# Altium schematic symbol library GCMSCHLibrerias.SchLib: 40 symbols
Pins are listed as number, name and electrical type; pins without a type are passive.

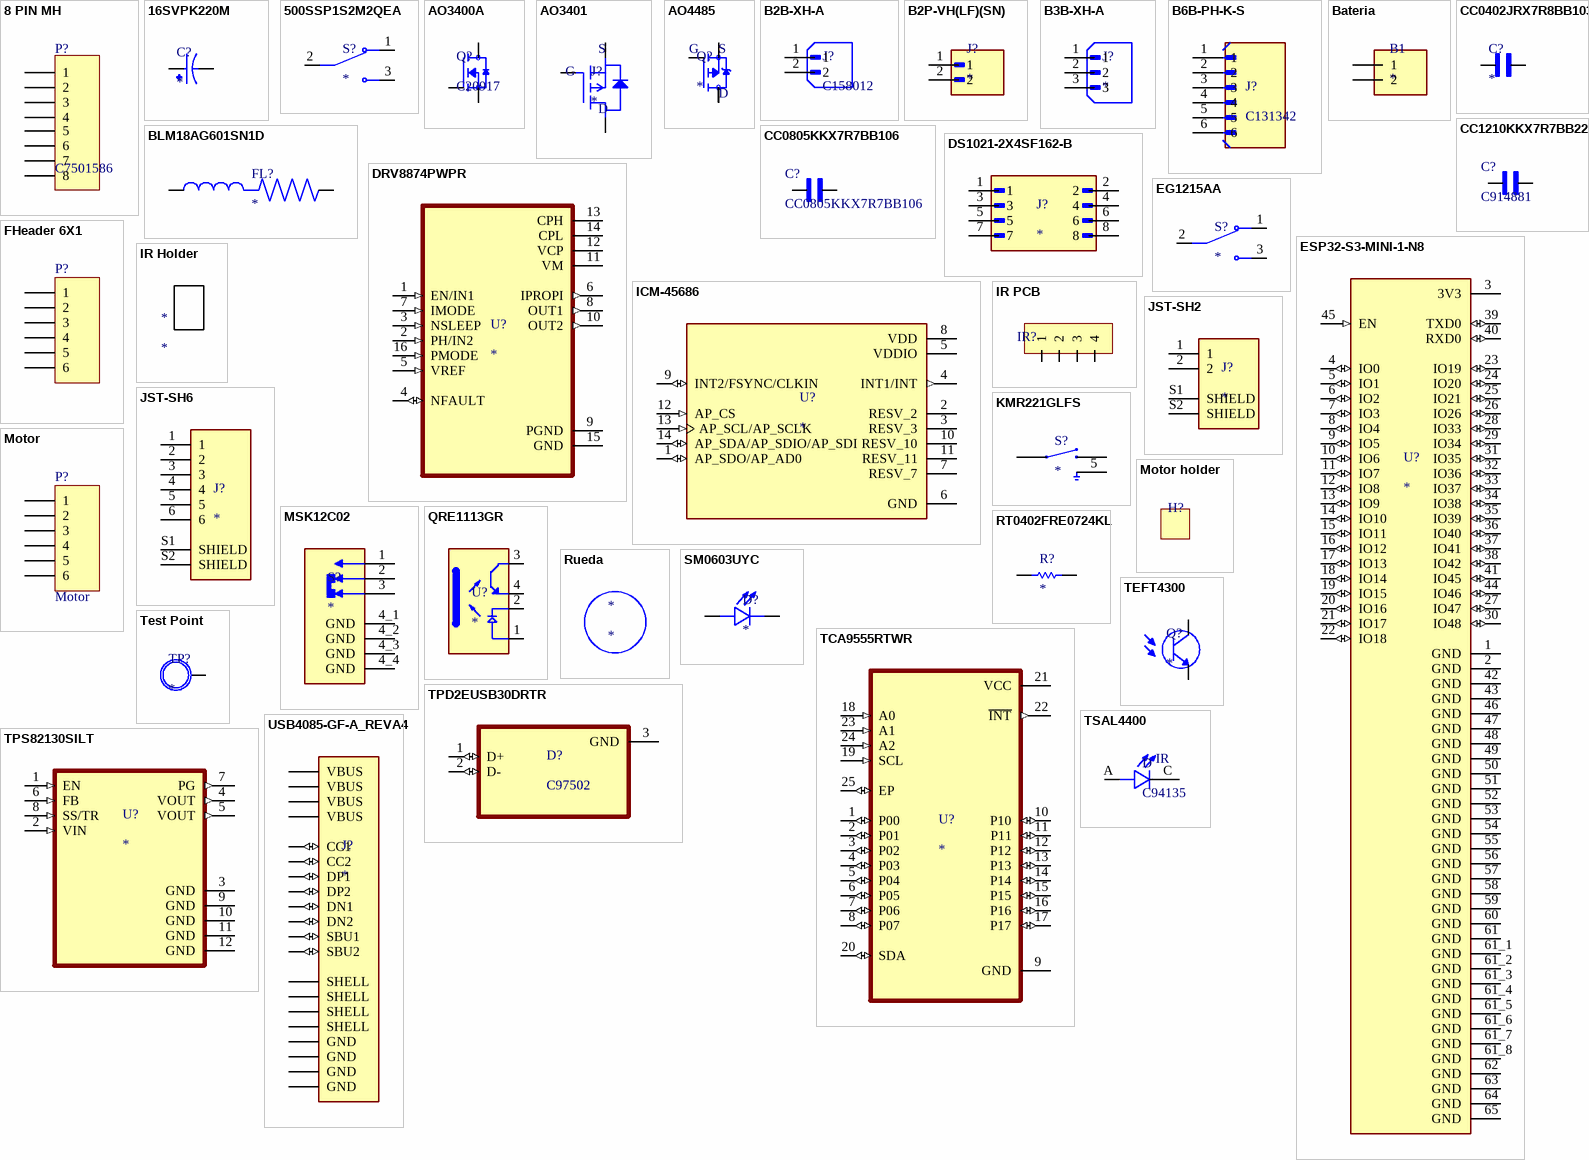
[diagram p0: symbols 8 PIN MH to USB4085-GF-A_REVA4]

## 8 PIN MH
designator P?, comment C7501586
LatestRevisionDate: 17-Jul-2002; LatestRevisionNote: Re-released for DXP Platform.; Publisher: Altium Limited
footprint 8 Pin Male Header
pins: 1, 2, 3, 4, 5, 6, 7, 8

## 16SVPK220M
designator C?
CAP, 220UF, 16V, ALU ELEC, POLYMER, SMD; Capacitance:220ÂµF; Voltage Rating:16V; AE Capacitor Case:Radial Can - SMD; Product Range:OS-CON SVPK Series; ESR:0.022ohm; Lifetime @ Temperature:1000 hours @ 12; MF: Panasonic; MP: 16SVPK220M.; SnapEDA_Link: https://www.snapeda.com/parts/16SVPK220M./Panasonic/view-part/?ref=snap; Package: None; Value: *; Check_prices: https://www.snapeda.com/parts/16SVPK220M./Panasonic/view-part/?ref=eda
footprint CAP_16SVPK220M
pins: 1, 2

## 500SSP1S2M2QEA
designator S?
Slide Switch, 500A Series, Sealed, SPDT, ON-ON, 5A, 120VAC/28VDC, Silver, PC Pi | E-Switch 500SSP1S2M2QEA; SnapEDA_Link: https://www.snapeda.com/parts/500SSP1S2M2QEA/E-Switch/view-part/?ref=snap; Package: None; Value: *; MF: E-Switch; MP: 500SSP1S2M2QEA; Check_prices: https://www.snapeda.com/parts/500SSP1S2M2QEA/E-Switch/view-part/?ref=eda
footprint SW_500SSP1S2M2QEA
pins: 1 NC, 2 COM, 3 NO

## AO3400A
designator Q?, comment C20917
N-Channel 30 V 5.7A (Ta) 1.4W (Ta) Surface Mount SOT-23-3; MF: Alpha & Omega Semiconductor; MP: AO3400A; SnapEDA_Link: https://www.snapeda.com/parts/AO3400A/Alpha/view-part/?ref=snap; Package: SOT-23 Alpha &amp; Omega Semiconductor Inc.; Value: *; Check_prices: https://www.snapeda.com/parts/AO3400A/Alpha/view-part/?ref=eda
footprint SOT95P280X125-3N
pins: 1 G, 2 S, 3 D

## AO3401
designator J?
P-Channel 30 V 4A (Ta) 1.4W (Ta) Surface Mount SOT-23-3; MF: Alpha & Omega Semiconductor; MP: AO3401; SnapEDA_Link: https://www.snapeda.com/parts/AO3401/Alpha/view-part/?ref=snap; Package: SOT-23-3 Alpha &amp; Omega Semiconductor; Value: *; Check_prices: https://www.snapeda.com/parts/AO3401/Alpha/view-part/?ref=eda
footprint SOT23
pins: 1 G, 2 S, 3 D

## AO4485
designator Q?
P-Channel 40 V 10A (Ta) 1.7W (Ta) Surface Mount 8-SOIC; MF: Alpha &; MP: AO4485; SnapEDA_Link: https://www.snapeda.com/parts/AO4485/Alpha/view-part/?ref=snap; Package: SOIC-8 Alpha &amp; Omega Semiconductor; Value: *; Check_prices: https://www.snapeda.com/parts/AO4485/Alpha/view-part/?ref=eda
footprint SOIC127P600X175-8N
pins: 1 S, 2 S, 3 S, 4 G, 5 D, 6 D, 7 D, 8 D

## B2B-XH-A
designator J?, comment C158012
MF: {'manufacturer': u'JST Sales America Inc.'}; MP: B2B-XH-A; Package: None; Price: None; Value: *; Availability: Unavailable
footprint JST_B2B-XH-A
pins: 1, 2

## B2P-VH(LF)(SN)
designator J?
Connector Header Through Hole 2 position 0.156 (3.96mm); MF: JST Sales; MP: B2P-VH(LF)(SN); SnapEDA_Link: https://www.snapeda.com/parts/B2P-VH(LF)(SN)/JST/view-part/?ref=snap; Package: None; Value: *; Check_prices: https://www.snapeda.com/parts/B2P-VH(LF)(SN)/JST/view-part/?ref=eda
footprint JST_B2P-VH(LF)(SN)
pins: 1, 2

## B3B-XH-A
designator J?
Connector Header Through Hole 3 position 0.098 (2.50mm); MF: JST Sales; MP: B3B-XH-A; SnapEDA_Link: https://www.snapeda.com/parts/B3B-XH-A/JST/view-part/?ref=snap; Package: None; Value: *; Check_prices: https://www.snapeda.com/parts/B3B-XH-A/JST/view-part/?ref=eda
footprint JST_B3B-XH-A
pins: 1, 2, 3

## B6B-PH-K-S
designator J?, comment C131342
Connector Header Through Hole 6 position 0.079 (2.00mm); MF: JST Sales; MP: B6B-PH-K-S; SnapEDA_Link: https://www.snapeda.com/parts/B6B-PH-K-S/JST+Sales+America+Inc./view-part/?ref=snap; Package: None; Value: *; Check_prices: https://www.snapeda.com/parts/B6B-PH-K-S/JST+Sales+America+Inc./view-part/?ref=eda
footprint JST_B6B-PH-K-S
pins: 1, 2, 3, 4, 5, 6

## Bateria
designator B1
MF: JST Sales; MP: B2P-VH(LF)(SN); SnapEDA_Link: https://www.snapeda.com/parts/B2P-VH(LF)(SN)/JST/view-part/?ref=snap; Package: None; Value: *; Check_prices: https://www.snapeda.com/parts/B2P-VH(LF)(SN)/JST/view-part/?ref=eda
footprint Bateria
pins: 1, 2

## BLM18AG601SN1D
designator FL?
600 Ohms @ 100 MHz 1 - Ferrite Bead 0603 (1608 Metric) 500mA 380mOhm; MF: Murata; MP: BLM18AG601SN1D; Check_prices: https://www.snapeda.com/parts/BLM18AG601SN1D/Murata/view-part/?ref=eda; SnapEDA_Link: https://www.snapeda.com/parts/BLM18AG601SN1D/Murata/view-part/?ref=snap; Availability: In Stock; Value: *; Price: None; Package: 1608 Murata; Purchase-URL: https://pricing.snapeda.com/search/part/BLM18AG601SN1D/?ref=eda
footprint BEADC1608X95N
pins: 1, 2

## CC0402JRX7R8BB103
designator C?
10000 pF Â±5% 25V Ceramic Capacitor X7R 0402 (1005 Metric); MF: Yageo; MP: CC0402JRX7R8BB103; SnapEDA_Link: https://www.snapeda.com/parts/CC0402JRX7R8BB103/Yageo/view-part/?ref=snap; Package: 0402 Yageo; Value: *; Check_prices: https://www.snapeda.com/parts/CC0402JRX7R8BB103/Yageo/view-part/?ref=eda
footprint CAPC1005X55N
pins: 1, 2

## CC0805KKX7R7BB106
designator C?
Description; Manufacturer_Name: Yageo; Copyright: Copyright (C) 2026 Ultra Librarian. All rights reserved.; Manufacturer_Part_Number: CC0805KKX7R7BB106
footprint CAP_CC0805_YAG
pins: 1, 2

## CC1210KKX7R7BB226
designator C?, comment C914881
Description; Manufacturer_Name: Yageo; Manufacturer_Part_Number: CC1210KKX7R7BB226; Copyright: Copyright (C) 2026 Ultra Librarian. All rights reserved.
footprint CAP_CC1210_YAG
pins: 1, 2

## DRV8874PWPR
designator U?
40-V, 6-A H-bridge motor driver with integrated current sensing feedback; MF: Texas Instruments; MP: DRV8874PWPR; SnapEDA_Link: https://www.snapeda.com/parts/DRV8874PWPR/Texas+Instruments/view-part/?ref=snap; Package: HTSSOP-16 Texas Instruments; Value: *; Check_prices: https://www.snapeda.com/parts/DRV8874PWPR/Texas+Instruments/view-part/?ref=eda
footprint SOP65P640X120-17N
pins: 1 EN/IN1 (in), 2 PH/IN2 (in), 3 NSLEEP (in), 4 NFAULT (io), 5 VREF (in), 6 IPROPI (out), 7 IMODE (in), 8 OUT1 (out), 9 PGND (power), 10 OUT2 (out), 11 VM (power), 12 VCP (power), 13 CPH (power), 14 CPL (power), 15 GND (power), 16 PMODE (in)

## DS1021-2X4SF162-B
designator J?
Pin header; pin strips; male; PIN: 8; straight; 2.54mm; THT; 2x4; MF: Connfly; MP: DS1021-2X4SF162-B; SnapEDA_Link: https://www.snapeda.com/parts/DS1021-2X4SF162-B/Connfly/view-part/?ref=snap; Package: None; Value: *; Check_prices: https://www.snapeda.com/parts/DS1021-2X4SF162-B/Connfly/view-part/?ref=eda
footprint CONNFLY_DS1021-2X4SF162-B
pins: 1, 2, 3, 4, 5, 6, 7, 8

## EG1215AA
designator S?
Slide Switch SPDT Surface Mount, Right Angle; MF: E-Switch; MP: EG1215AA; SnapEDA_Link: https://www.snapeda.com/parts/EG1215AA/E-Switch/view-part/?ref=snap; Package: None; Value: *; Check_prices: https://www.snapeda.com/parts/EG1215AA/E-Switch/view-part/?ref=eda
footprint SW_EG1215AA
pins: 1, 2, 3

## ESP32-S3-MINI-1-N8
designator U?
MF: {'manufacturer': u'Espressif Systems'}; MP: ESP32-S3-MINI-1-N8; Package: None; Price: None; Value: *; Availability: Unavailable
footprint XCVR_ESP32-S3-MINI-1-N8
pins: 1 GND (power), 2 GND (power), 3 3V3 (power), 4 IO0 (io), 5 IO1 (io), 6 IO2 (io), 7 IO3 (io), 8 IO4 (io), 9 IO5 (io), 10 IO6 (io), 11 IO7 (io), 12 IO8 (io), 13 IO9 (io), 14 IO10 (io), 15 IO11 (io), 16 IO12 (io), 17 IO13 (io), 18 IO14 (io), 19 IO15 (io), 20 IO16 (io), 21 IO17 (io), 22 IO18 (io), 23 IO19 (io), 24 IO20 (io), 25 IO21 (io), 26 IO26 (io), 27 IO47 (io), 28 IO33 (io), 29 IO34 (io), 30 IO48 (io), 31 IO35 (io), 32 IO36 (io), 33 IO37 (io), 34 IO38 (io), 35 IO39 (io), 36 IO40 (io), 37 IO41 (io), 38 IO42 (io), 39 TXD0 (io), 40 RXD0 (io), 41 IO45 (io), 42 GND (power), 43 GND (power), 44 IO46 (io), 45 EN (in), 46 GND (power), 47 GND (power), 48 GND (power), 49 GND (power), 50 GND (power), 51 GND (power), 52 GND (power), 53 GND (power), 54 GND (power), 55 GND (power), 56 GND (power), 57 GND (power), 58 GND (power), 59 GND (power), 60 GND (power), 61 GND (power), 61_1 GND (power), 61_2 GND (power), 61_3 GND (power), 61_4 GND (power), 61_5 GND (power), 61_6 GND (power), 61_7 GND (power), 61_8 GND (power), 62 GND (power), 63 GND (power), 64 GND (power), 65 GND (power)

## FHeader 6X1
designator P?
LatestRevisionDate: 17-Jul-2002; LatestRevisionNote: Re-released for DXP Platform.; Publisher: Altium Limited
footprint FHDR1X6
pins: 1, 2, 3, 4, 5, 6

## ICM-45686
designator U?
Accelerometer, Gyroscope, 6 Axis Sensor Output; MP: ICM-42688-P; Package: None; Value: *; Availability: Unavailable; Price: None
footprint PQFN50P300X250X97-14N
pins: 1 AP_SDO/AP_AD0 (io), 2 RESV_2, 3 RESV_3, 4 INT1/INT (out), 5 VDDIO (power), 6 GND (power), 7 RESV_7, 8 VDD (power), 9 INT2/FSYNC/CLKIN (io), 10 RESV_10, 11 RESV_11, 12 AP_CS (in), 13 AP_SCL/AP_SCLK (in), 14 AP_SDA/AP_SDIO/AP_SDI (io)

## IR Holder
designator *
footprint IR Holder

## IR PCB
designator IR?  (value not drawn)
footprint IR Board pins
pins: 1, 2, 3, 4

## JST-SH2
designator J?
MP: BM02B-SRSS-TB(LF)(SN); Package: None; Price: None; Value: *; Availability: Unavailable
footprint JST-SH2
pins: 1, 2, S1 SHIELD, S2 SHIELD

## JST-SH6
designator J?
MP: BM06B-SRSS-TB(LF)(SN); Package: None; Price: None; Value: *; Availability: Unavailable
footprint JST-SH6
pins: 1, 2, 3, 4, 5, 6, S1 SHIELD, S2 SHIELD

## KMR221GLFS
designator S?
Switch Tactile N.O. SPST Button Gull Wing 0.05A 32VDC 1VA 200000Cycles 2N SMD Automotive T/R; MF: CK; MP: KMR221G LFS; SnapEDA_Link: https://www.snapeda.com/parts/KMR221G%20LFS/C%2526K/view-part/?ref=snap; Package: None; Value: *; Check_prices: https://www.snapeda.com/parts/KMR221G%20LFS/C%2526K/view-part/?ref=eda
footprint SW_KMR221GLFS
pins: 1, 2 3, 3, 4 1, 5

## Motor
designator P?
LatestRevisionDate: 17-Jul-2002; LatestRevisionNote: Re-released for DXP Platform.; Publisher: Altium Limited
footprint MotionSupport
pins: 1, 2, 3, 4, 5, 6

## Motor holder
designator H?
footprint motor holder

## MSK12C02
designator S?
MP: MSK12C02; Package: None; Price: None; Value: *; Availability: Unavailable
footprint SW_MSK12C02
pins: 1, 2, 3, 4_1 GND, 4_2 GND, 4_3 GND, 4_4 GND

## QRE1113GR
designator U?
Reflective Optical Sensor 0.039 (1mm) 4-SMD, Gull Wing; MF: ON Semiconductor; MP: QRE1113GR; Package: ARUSM-313-4 ON Semiconductor; Price: None; Check_prices: https://www.snapeda.com/parts/QRE1113GR/Onsemi/view-part/?ref=eda; Value: *; SnapEDA_Link: https://www.snapeda.com/parts/QRE1113GR/Onsemi/view-part/?ref=snap; Availability: In Stock; Purchase-URL: https://pricing.snapeda.com/search/part/QRE1113GR/?ref=eda
footprint SOIC180P460X187-4N
pins: 1 A, 2 C, 3 CT, 4 ET

## RT0402FRE0724KL
designator R?
RT Series 0402 0.063 W 24 kOhm Â±1 % Â±50 ppm/Â°C SMT Thin Film Chip Resistor; MF: Yageo; MP: RT0402FRE0724KL; SnapEDA_Link: https://www.snapeda.com/parts/RT0402FRE0724KL/Yageo/view-part/?ref=snap; Package: 1005 Yageo; Value: *; Check_prices: https://www.snapeda.com/parts/RT0402FRE0724KL/Yageo/view-part/?ref=eda
footprint RESC1005X35N
pins: 1, 2

## Rueda
designator *
footprint Rueda

## SM0603UYC
designator D?
LED SMD 0603 Ultra Yellow 593nm 70mcd Water Clear Lens 130 Deg Viewing Angle | Bivar Inc. SM0603UYC; SnapEDA_Link: https://www.snapeda.com/parts/SM0603UYC/Bivar/view-part/?ref=snap; Package: 0603 Bivar; Value: *; MF: Bivar; MP: SM0603UYC; Check_prices: https://www.snapeda.com/parts/SM0603UYC/Bivar/view-part/?ref=eda
footprint LED_SM0603UYC
pins: A, C

## TCA9555RTWR
designator U?
MP: TCA9555RTWR; Package: None; Price: None; Value: *; Availability: Unavailable
footprint QFN50P400X400X80-25N
pins: 1 P00 (io), 2 P01 (io), 3 P02 (io), 4 P03 (io), 5 P04 (io), 6 P05 (io), 7 P06 (io), 8 P07 (io), 9 GND (power), 10 P10 (io), 11 P11 (io), 12 P12 (io), 13 P13 (io), 14 P14 (io), 15 P15 (io), 16 P16 (io), 17 P17 (io), 18 A0 (in), 19 SCL (in), 20 SDA (io), 21 VCC (power), 22 ~{INT} (out), 23 A1 (in), 24 A2 (in), 25 EP (io)

## TEFT4300
designator Q?
Phototransistors 925nm Top View Radial, 3mm Dia (T-1); MF: Vishay Semiconductor; MP: TEFT4300; SnapEDA_Link: https://www.snapeda.com/parts/TEFT4300/Vishay/view-part/?ref=snap; Package: None; Value: *; Check_prices: https://www.snapeda.com/parts/TEFT4300/Vishay/view-part/?ref=eda
footprint XDCR_TEFT4300
pins: C, E

## Test Point
designator TP?  (no BOM)
footprint TestPoint
pins: 1

## TPD2EUSB30DRTR
designator D?, comment C97502
2-channel ESD solution for SuperSpeed USB 3.0 interface 3-SOT-9X3 -40 to 85; MP: TPD2EUSB30DRTR; MF: Texas Instruments; Package: SOT-9X3-3 Texas Instruments; Purchase-URL: https://pricing.snapeda.com/search/part/TPD2EUSB30DRTR/?ref=eda; Value: *; Availability: Warning; SnapEDA_Link: https://www.snapeda.com/parts/TPD2EUSB30DRTR/Texas%20Instruments/view-part/189118/?ref=snap; Price: None
footprint SOTFL35P100X50-3N
pins: 1 D+ (io), 2 D- (io), 3 GND (power)

## TPS82130SILT
designator U?
Non-Isolated PoL Module DC DC Converter 1 Output 0.9 ~ 5V - - - 3A 3V - 17V Input; MF: Texas Instruments; MP: TPS82130SIL; SnapEDA_Link: https://www.snapeda.com/parts/TPS82130SIL/Texas+Instruments/view-part/?ref=snap; Package: None; Value: *; Check_prices: https://www.snapeda.com/parts/TPS82130SIL/Texas+Instruments/view-part/?ref=eda
footprint CONV_TPS82140SILR
pins: 1 EN (in), 2 VIN (in), 3 GND (power), 4 VOUT (out), 5 VOUT (out), 6 FB (in), 7 PG (out), 8 SS/TR (in), 9 GND (power), 10 GND (power), 11 GND (power), 12 GND (power)

## TSAL4400
designator D, comment C94135
Infrared Emitter 940nm 36mW/sr Circular Top Mount 2-Pin T-1 Bulk; MF: Vishay Semiconductor; MP: TSAL4400; Package: Radial Vishay; Price: None; SnapEDA_Link: https://www.snapeda.com/parts/TSAL4400/Vishay%20Semiconductor%20Opto%20Division/view-part/3623381/?ref=snap; Value: *; Availability: Unavailable
footprint LEDRD254W45D335H610
pins: A, C
text: IR

## USB4085-GF-A_REVA4
designator J?
USB-C (USB TYPE-C) USB 2.0 Receptacle Connector 24 (16+8 Dummy) Position Through Hole, Right Angle, low cost, 3.46mm profile, 16 pin, horizontal, Top mount; MP: USB4085-GF-A; MF: Global Connector Technology; SnapEDA_Link: https://www.snapeda.com/parts/USB4085-GF-A/Global+Connector+Technology/view-part/?ref=snap; Package: None; Check_prices: https://www.snapeda.com/parts/USB4085-GF-A/Global+Connector+Technology/view-part/?ref=eda; Purchase-URL: https://pricing.snapeda.com/search/part/USB4085-GF-A/?ref=eda; Price: None; Value: *; Availability: In Stock
footprint GCT_USB4085-GF-A_REVA4
pins: A1 GND (power), A4 VBUS (power), A5 CC1 (io), A6 DP1 (io), A7 DN1 (io), A8 SBU1 (io), A9 VBUS (power), A12 GND (power), B1 GND (power), B4 VBUS (power), B5 CC2 (io), B6 DP2 (io), B7 DN2 (io), B8 SBU2 (io), B9 VBUS (power), B12 GND (power), S1 SHELL, S2 SHELL, S3 SHELL, S4 SHELL